# Altium schematic symbol library SCH-MCU-WCH-CH32F203K8T6-LQFP32.SchLib: 1 symbol
Pins are listed as number, name and electrical type; pins without a type are passive.

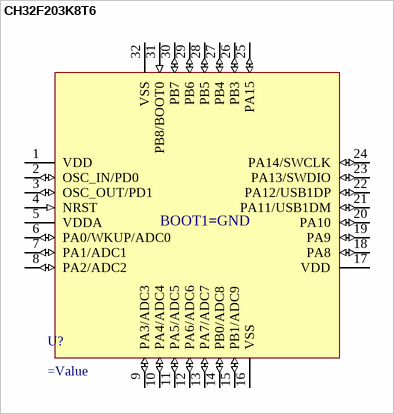
[diagram p0: symbol CH32F203K8T6]

## CH32F203K8T6
designator U?
pins: 1 VDD (power), 2 OSC_IN/PD0 (io), 3 OSC_OUT/PD1 (io), 4 NRST (in), 5 VDDA (power), 6 PA0/WKUP/ADC0 (io), 7 PA1/ADC1 (io), 8 PA2/ADC2 (io), 9 PA3/ADC3 (io), 10 PA4/ADC4 (io), 11 PA5/ADC5 (io), 12 PA6/ADC6 (io), 13 PA7/ADC7 (io), 14 PB0/ADC8 (io), 15 PB1/ADC9 (io), 16 VSS (power), 17 VDD (power), 18 PA8 (io), 19 PA9 (io), 20 PA10 (io), 21 PA11/USB1DM (io), 22 PA12/USB1DP (io), 23 PA13/SWDIO (io), 24 PA14/SWCLK (io), 25 PA15 (io), 26 PB3 (io), 27 PB4 (io), 28 PB5 (io), 29 PB6 (io), 30 PB7 (io), 31 PB8/BOOT0 (in), 32 VSS (power)
text: BOOT1=GND